# EAGLE library part BM07B-NSHSS-TBT (library NSH)
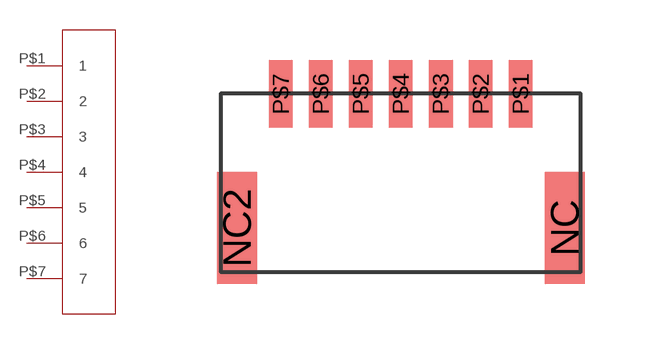
[diagram p1: symbol with the pads of BM07B-NSHSS-TBT; footprint BM07B-NSHSS-TBT]

Designator prefix -

## BM07B-NSHSS-TBT  [BM07B-NSHSS-TBT]
P$1  1
P$2  2
P$3  3
P$4  4
P$5  5
P$6  6
P$7  7

## Footprint BM07B-NSHSS-TBT (pad centres in mm)
smd 1 x 2.8: NC 4.1,1.4; NC2 -4.1,1.4
smd 0.6 x 1.7: P$1 3,4.75; P$2 2,4.75; P$3 1,4.75; P$4 0,4.75; P$5 -1,4.75; P$6 -2,4.75; P$7 -3,4.75